# Altium footprint library TD541SCANH.PcbLib: 1 footprints
Each footprint in its own frame and in the unit in brackets; x right, y up, seen from the top. Pads: shape width x height; smd on the part's side, far side on the other; paste and mask are expansions set on the pad; w line width, h text height; cw(c..) or ccw(c..) is an arc to the next point about the centre after c.
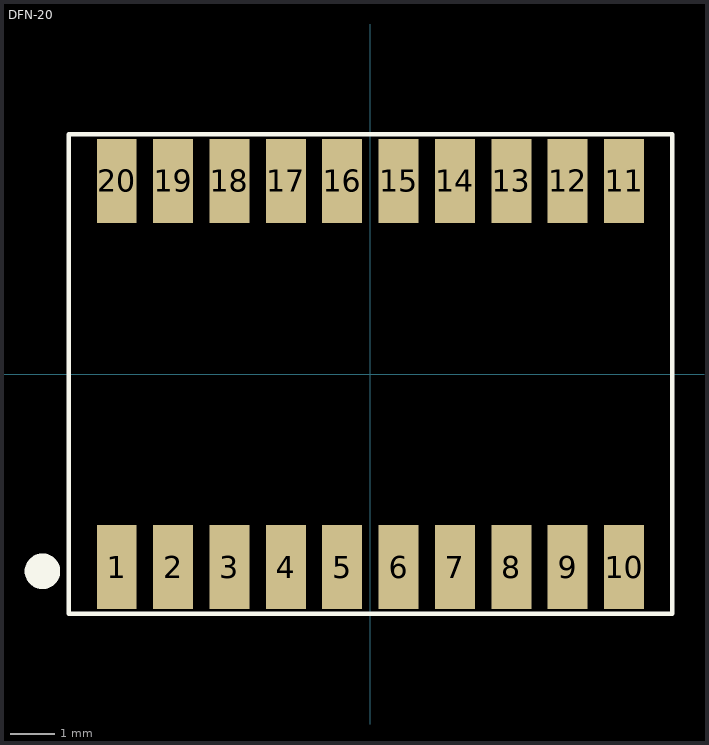
[diagram p0: the footprint, top view; thin cyan lines are the x and y axes]

## DFN-20 [mm] "TD541SCANH"
pads (20):
  rect 0.9x1.9 smd: 1(-5.715,-4.35) 2(-4.445,-4.35) 3(-3.175,-4.35) 4(-1.905,-4.35) 5(-0.635,-4.35) 6(0.635,-4.35) 7(1.905,-4.35) 8(3.175,-4.35) 9(4.445,-4.35) 10(5.715,-4.35) 11(5.715,4.35) 12(4.445,4.35) 13(3.175,4.35) 14(1.905,4.35) 15(0.635,4.35) 16(-0.635,4.35) 17(-1.905,4.35) 18(-3.175,4.35) 19(-4.445,4.35) 20(-5.715,4.35)
Top Overlay:
  circle w0.5: c-7.389,-4.445 r0.15
  lines w0.102: -6.8,-5.4 6.8,-5.4 6.8,5.4 -6.8,5.4 -6.8,-5.4